# EAGLE library part DB9MA09 (library mECustom)
DB9 PIN Connector Package: 9 Pin 0.1 inch pads
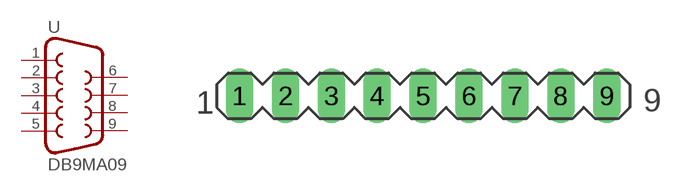
[diagram p8: symbol with the pads of MA-09; footprint MA-09]

Designator prefix -

## DB9MA09  [MA-09]
1  1CD  pas
2  2RX  pas
3  3TX  pas
4  4DTR  pas
5  5GND  pas
6  6DSR  pas
7  7RTS  pas
8  8CTS  pas
9  9RI  pas

## Footprint MA-09 (pad centres in mm)
drill 1.016 long: 1 -10.16,0; 2 -7.62,0; 3 -5.08,0; 4 -2.54,0; 5 0,0; 6 2.54,0; 7 5.08,0; 8 7.62,0; 9 10.16,0